# Altium integrated library Lab_1.IntLib: 6 symbols
Pins are listed as number, name and electrical type; pins without a type are passive.

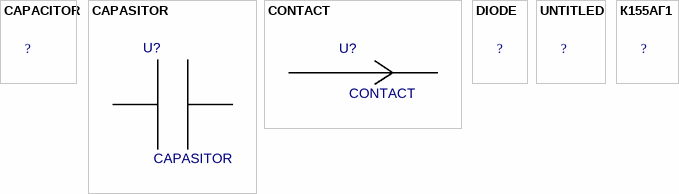
[diagram p0: symbols CAPACITOR to К155АГ1]

## CAPACITOR
designator ?  (value not drawn)
Value: *
footprint CAPACITOR

## CAPASITOR
designator U?
Value: *
pins: 1, 2

## CONTACT
designator U?
Value: *
pins: 1, 2

## DIODE
designator ?  (value not drawn)
Value: *
footprint DIODE

## UNTITLED
designator ?  (value not drawn)
Value: *
footprint CONTACT

## К155АГ1
designator ?  (value not drawn)
Value: *
footprint К155АГ1
pins: 1 hidden, 2 hidden, 3 hidden, 4 hidden, 5 hidden, 6 hidden, 7 hidden, 8 hidden, 9 hidden, 10 hidden, 11 hidden, 12 hidden